# Altium schematic symbol library ADP2114ACPZ.Schlib: 1 symbol
Pins are listed as number, name and electrical type; pins without a type are passive.

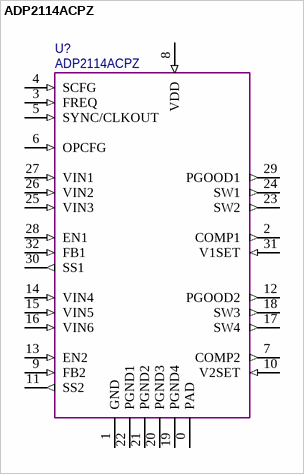
[diagram p0: symbol ADP2114ACPZ]

## ADP2114ACPZ
designator U?
pins: 0 PAD (power), 1 GND (power), 2 COMP1 (out), 3 FREQ (in), 4 SCFG (in), 5 SYNC/CLKOUT (in), 6 OPCFG (in), 7 COMP2 (out), 8 VDD (in), 9 FB2 (in), 10 V2SET (in), 11 SS2 (out), 12 PGOOD2 (out), 13 EN2 (in), 14 VIN4 (in), 15 VIN5 (in), 16 VIN6 (in), 17 SW4 (out), 18 SW3 (out), 19 PGND4 (power), 20 PGND3 (power), 21 PGND2 (power), 22 PGND1 (power), 23 SW2 (out), 24 SW1 (out), 25 VIN3 (in), 26 VIN2 (in), 27 VIN1 (in), 28 EN1 (in), 29 PGOOD1 (out), 30 SS1 (out), 31 V1SET (in), 32 FB1 (in)